# Altium footprint library R82CC4470Z330J.PcbLib: 1 footprints
Each footprint in its own frame and in the unit in brackets; x right, y up, seen from the top. Pads: shape width x height; smd on the part's side, far side on the other; paste and mask are expansions set on the pad; w line width, h text height; cw(c..) or ccw(c..) is an arc to the next point about the centre after c.
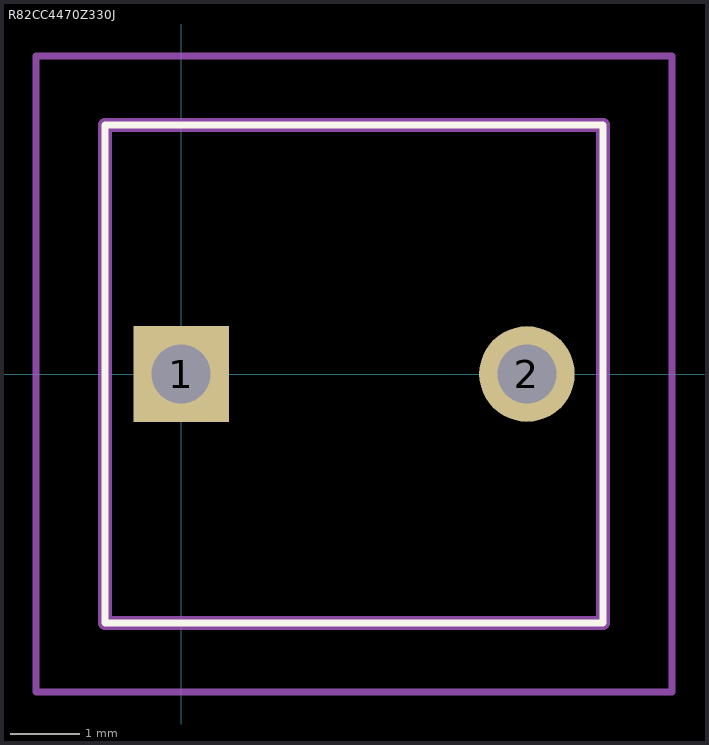
[diagram p0: the footprint, top view; thin cyan lines are the x and y axes]

## R82CC4470Z330J [mm]
pads (2):
  rect 1.381x1.381 hole 0.85: 1(0,0)
  round 1.381 hole 0.85: 2(5,0)
Top Overlay:
  lines w0.1: -1.1,-3.6 6.1,-3.6 6.1,3.6 -1.1,3.6 -1.1,-3.6
Mechanical 15:
  lines w0.2: -1.1,-3.6 6.1,-3.6 6.1,3.6 -1.1,3.6 -1.1,-3.6
Mechanical 20:
  lines w0.1: -2.1,-4.6 7.1,-4.6 7.1,4.6 -2.1,4.6 -2.1,-4.6